# Altium schematic symbol library SnapEDAsch.SchLib: 1 symbol
Pins are listed as number, name and electrical type; pins without a type are passive.

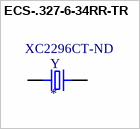
[diagram p0: symbol ECS-.327-6-34RR-TR]

## ECS-.327-6-34RR-TR
designator Y  Supplier Part Number 1: XC2296CT-ND
32.768kHz Â±20ppm Crystal 6pF 40 kOhms 2-SMD, No Lead; MF: ECS Inc.; MP: ECS-.327-6-34RR-TR; SnapEDA_Link: https://www.snapeda.com/parts/ECS-.327-6-34RR-TR/ECS%20Inc./view-part/2047718/?ref=snap; Value: *; Package: SMD-2 TE Connectivity; DigiKey-Purchase-URL: https://snapeda.com/shop?store=DigiKey&id=2047718; Digi-Key_Part_Number: XC2296CT-ND; Supplier 1: Digi-Key
footprint XTAL_ECS-.327-6-34RR-TR
pins: 1 I/O, 2 O/I